# EAGLE library part XC2C64A-7VQG100C (library muccc)
XC2C64A Coolrunner-II CPLD VQ100 Package
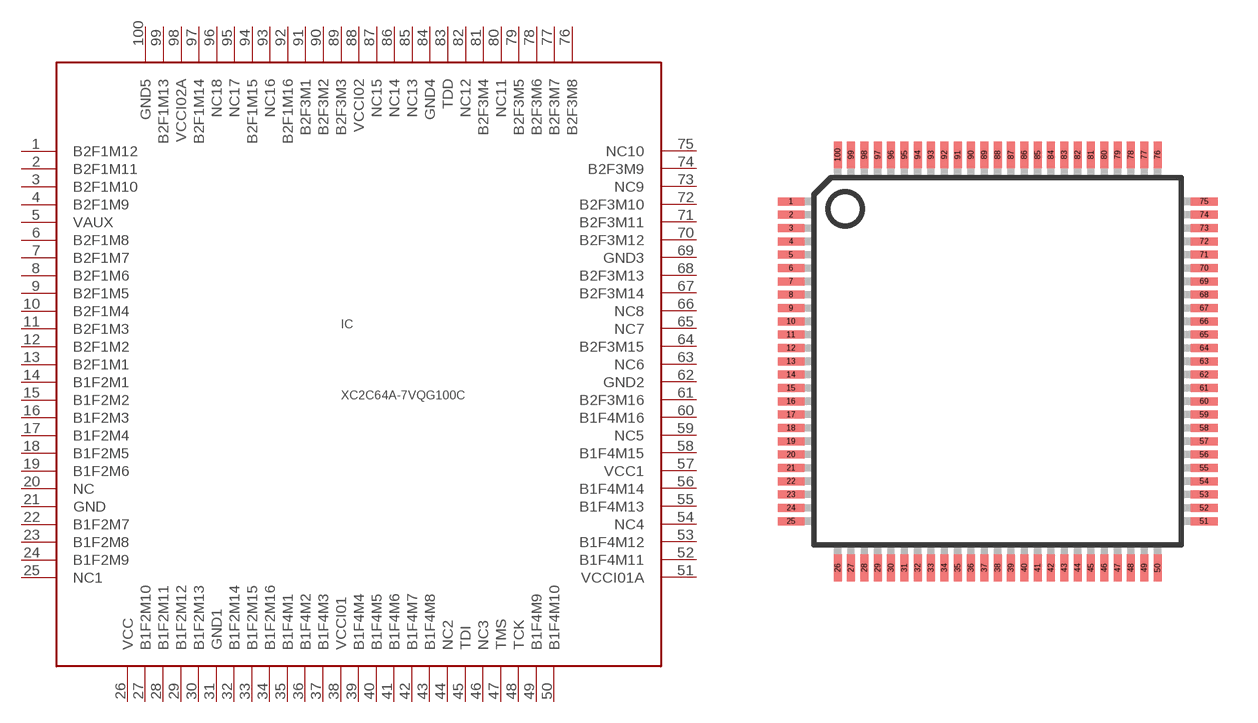
[diagram p3: symbol with the pads of VQ100; footprint VQ100]

Designator prefix IC

## XC2C64A-7VQG100C  [VQ100]
1  B2F1M12
2  B2F1M11
3  B2F1M10
4  B2F1M9
5  VAUX
6  B2F1M8
7  B2F1M7
8  B2F1M6
9  B2F1M5
10  B2F1M4
11  B2F1M3
12  B2F1M2
13  B2F1M1
14  B1F2M1
15  B1F2M2
16  B1F2M3
17  B1F2M4
18  B1F2M5
19  B1F2M6
20  NC
21  GND
22  B1F2M7
23  B1F2M8
24  B1F2M9
25  NC1
26  VCC
27  B1F2M10
28  B1F2M11
29  B1F2M12
30  B1F2M13
31  GND1
32  B1F2M14
33  B1F2M15
34  B1F2M16
35  B1F4M1
36  B1F4M2
37  B1F4M3
38  VCCI01
39  B1F4M4
40  B1F4M5
41  B1F4M6
42  B1F4M7
43  B1F4M8
44  NC2
45  TDI
46  NC3
47  TMS
48  TCK
49  B1F4M9
50  B1F4M10
51  VCCI01A
52  B1F4M11
53  B1F4M12
54  NC4
55  B1F4M13
56  B1F4M14
57  VCC1
58  B1F4M15
59  NC5
60  B1F4M16
61  B2F3M16
62  GND2
63  NC6
64  B2F3M15
65  NC7
66  NC8
67  B2F3M14
68  B2F3M13
69  GND3
70  B2F3M12
71  B2F3M11
72  B2F3M10
73  NC9
74  B2F3M9
75  NC10
76  B2F3M8
77  B2F3M7
78  B2F3M6
79  B2F3M5
80  NC11
81  B2F3M4
82  NC12
83  TDD
84  GND4
85  NC13
86  NC14
87  NC15
88  VCCI02
89  B2F3M3
90  B2F3M2
91  B2F3M1
92  B2F1M16
93  NC16
94  B2F1M15
95  NC17
96  NC18
97  B2F1M14
98  VCCI02A
99  B2F1M13
100  GND5

## Footprint VQ100 (pad centres in mm)
smd 1 x 0.3: 1 -7.75,6; 2 -7.75,5.5; 3 -7.75,5; 4 -7.75,4.5; 5 -7.75,4; 6 -7.75,3.5; 7 -7.75,3; 8 -7.75,2.5; 9 -7.75,2; 10 -7.75,1.5; 11 -7.75,1; 12 -7.75,0.5; 13 -7.75,0; 14 -7.75,-0.5; 15 -7.75,-1; 16 -7.75,-1.5; 17 -7.75,-2; 18 -7.75,-2.5; 19 -7.75,-3; 20 -7.75,-3.5; 21 -7.75,-4; 22 -7.75,-4.5; 23 -7.75,-5; 24 -7.75,-5.5; 25 -7.75,-6; 51 7.75,-6; 52 7.75,-5.5; 53 7.75,-5; 54 7.75,-4.5; 55 7.75,-4; 56 7.75,-3.5; 57 7.75,-3; 58 7.75,-2.5; 59 7.75,-2; 60 7.75,-1.5; 61 7.75,-1; 62 7.75,-0.5; 63 7.75,0; 64 7.75,0.5; 65 7.75,1; 66 7.75,1.5; 67 7.75,2; 68 7.75,2.5; 69 7.75,3; 70 7.75,3.5; 71 7.75,4; 72 7.75,4.5; 73 7.75,5; 74 7.75,5.5; 75 7.75,6
smd 0.3 x 1: 26 -6,-7.75; 27 -5.5,-7.75; 28 -5,-7.75; 29 -4.5,-7.75; 30 -4,-7.75; 31 -3.5,-7.75; 32 -3,-7.75; 33 -2.5,-7.75; 34 -2,-7.75; 35 -1.5,-7.75; 36 -1,-7.75; 37 -0.5,-7.75; 38 0,-7.75; 39 0.5,-7.75; 40 1,-7.75; 41 1.5,-7.75; 42 2,-7.75; 43 2.5,-7.75; 44 3,-7.75; 45 3.5,-7.75; 46 4,-7.75; 47 4.5,-7.75; 48 5,-7.75; 49 5.5,-7.75; 50 6,-7.75; 76 6,7.75; 77 5.5,7.75; 78 5,7.75; 79 4.5,7.75; 80 4,7.75; 81 3.5,7.75; 82 3,7.75; 83 2.5,7.75; 84 2,7.75; 85 1.5,7.75; 86 1,7.75; 87 0.5,7.75; 88 0,7.75; 89 -0.5,7.75; 90 -1,7.75; 91 -1.5,7.75; 92 -2,7.75; 93 -2.5,7.75; 94 -3,7.75; 95 -3.5,7.75; 96 -4,7.75; 97 -4.5,7.75; 98 -5,7.75; 99 -5.5,7.75; 100 -6,7.75